# Altium schematic symbol library CMC.SchLib: 1 symbol
Pins are listed as number, name and electrical type; pins without a type are passive.

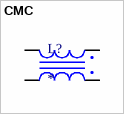
[diagram p0: symbol CMC]

## CMC
designator L?
pins: 1, 2, 3, 4